# EAGLE library part CONN_RJ45_X2 (library GPLIB_CONN)
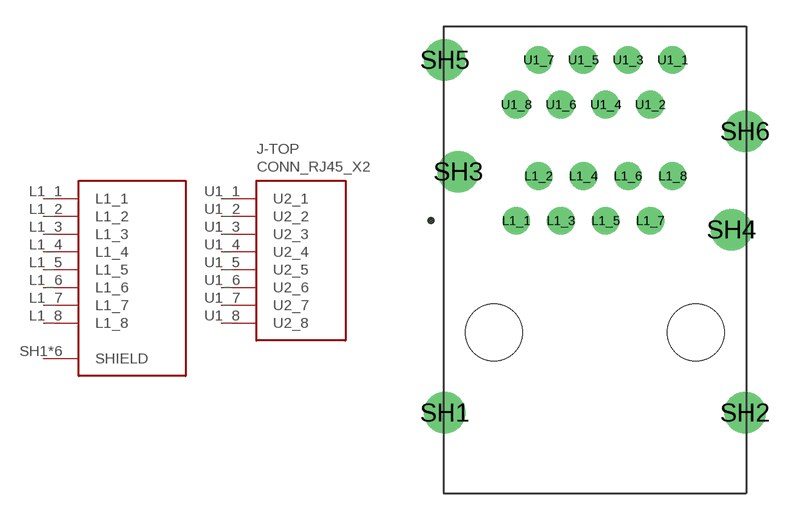
[diagram p15: symbol with the pads of CONN_RJ45_X2_HC-RJ45-059A-2*1-3; footprint CONN_RJ45_X2_HC-RJ45-059A-2*1-3]

Designator prefix J; gates -BOTTOM=CONN_ETH_LOWER_SH -TOP=CONN_ETH_UPPER

## CONN_RJ45_X2_HC-RJ45-059A-2*1-3  [CONN_RJ45_X2_HC-RJ45-059A-2*1-3]
L1_1  -BOTTOM:L1_1  pas
L1_2  -BOTTOM:L1_2  pas
L1_3  -BOTTOM:L1_3  pas
L1_4  -BOTTOM:L1_4  pas
L1_5  -BOTTOM:L1_5  pas
L1_6  -BOTTOM:L1_6  pas
L1_7  -BOTTOM:L1_7  pas
L1_8  -BOTTOM:L1_8  pas
SH1  -BOTTOM:SHIELD  pas
SH2  -BOTTOM:SHIELD  pas
SH3  -BOTTOM:SHIELD  pas
SH4  -BOTTOM:SHIELD  pas
SH5  -BOTTOM:SHIELD  pas
SH6  -BOTTOM:SHIELD  pas
U1_1  -TOP:U2_1  pas
U1_2  -TOP:U2_2  pas
U1_3  -TOP:U2_3  pas
U1_4  -TOP:U2_4  pas
U1_5  -TOP:U2_5  pas
U1_6  -TOP:U2_6  pas
U1_7  -TOP:U2_7  pas
U1_8  -TOP:U2_8  pas

## Footprint CONN_RJ45_X2_HC-RJ45-059A-2*1-3 (pad centres in mm)
drill 1.05: L1_1 -4.467,0.885; L1_2 -3.197,3.425; L1_3 -1.927,0.885; L1_4 -0.657,3.425; L1_5 0.613,0.885; L1_6 1.883,3.425; L1_7 3.153,0.885; L1_8 4.423,3.425; U1_1 4.423,10.025; U1_2 3.153,7.485; U1_3 1.883,10.025; U1_4 0.613,7.485; U1_5 -0.657,10.025; U1_6 -1.927,7.485; U1_7 -3.197,10.025; U1_8 -4.467,7.485
drill 1.57: SH1 -8.527,-10.035; SH2 8.527,-10.035; SH3 -7.767,3.675; SH4 7.767,0.375; SH5 -8.527,10.025; SH6 8.527,5.965
hole 3.25 at -5.737,-5.465
hole 3.25 at 5.737,-5.465